# Altium footprint library SS26FL.PcbLib: 1 footprints
Each footprint in its own frame and in the unit in brackets; x right, y up, seen from the top. Pads: shape width x height; smd on the part's side, far side on the other; paste and mask are expansions set on the pad; w line width, h text height; cw(c..) or ccw(c..) is an arc to the next point about the centre after c.
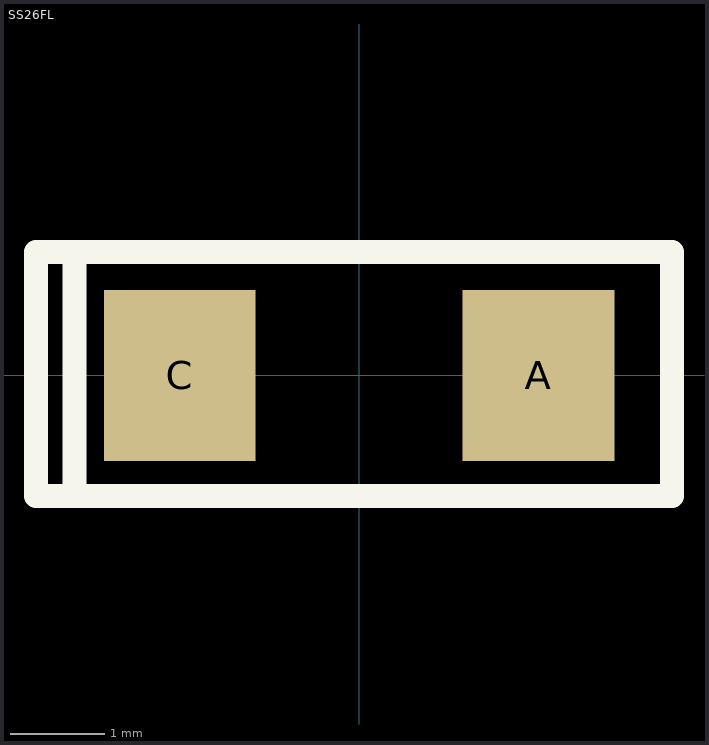
[diagram p0: the footprint, top view; thin cyan lines are the x and y axes]

## SS26FL [mil]
pads (2):
  rect 63x71 smd: A(74.5,0) C(-74.5,0)
Top Overlay:
  lines w10: -118.19,-50 -118.19,50 ; 129.92,-50 -134.25,-50 -134.25,-20.5 -134.25,51.18 129.92,51.18 ; 130,-50 130,51.18
3D body "SMAF.STEP": height 39.41, standoff -0.39, extent -104.33,-49.83 104.33,49.84